# Altium footprint library JMPKG.PcbLib: 337 footprints (part 14 of 22)
Each footprint in its own frame and in the unit in brackets; x right, y up, seen from the top. Pads: shape width x height; smd on the part's side, far side on the other; paste and mask are expansions set on the pad; w line width, h text height; cw(c..) or ccw(c..) is an arc to the next point about the centre after c.
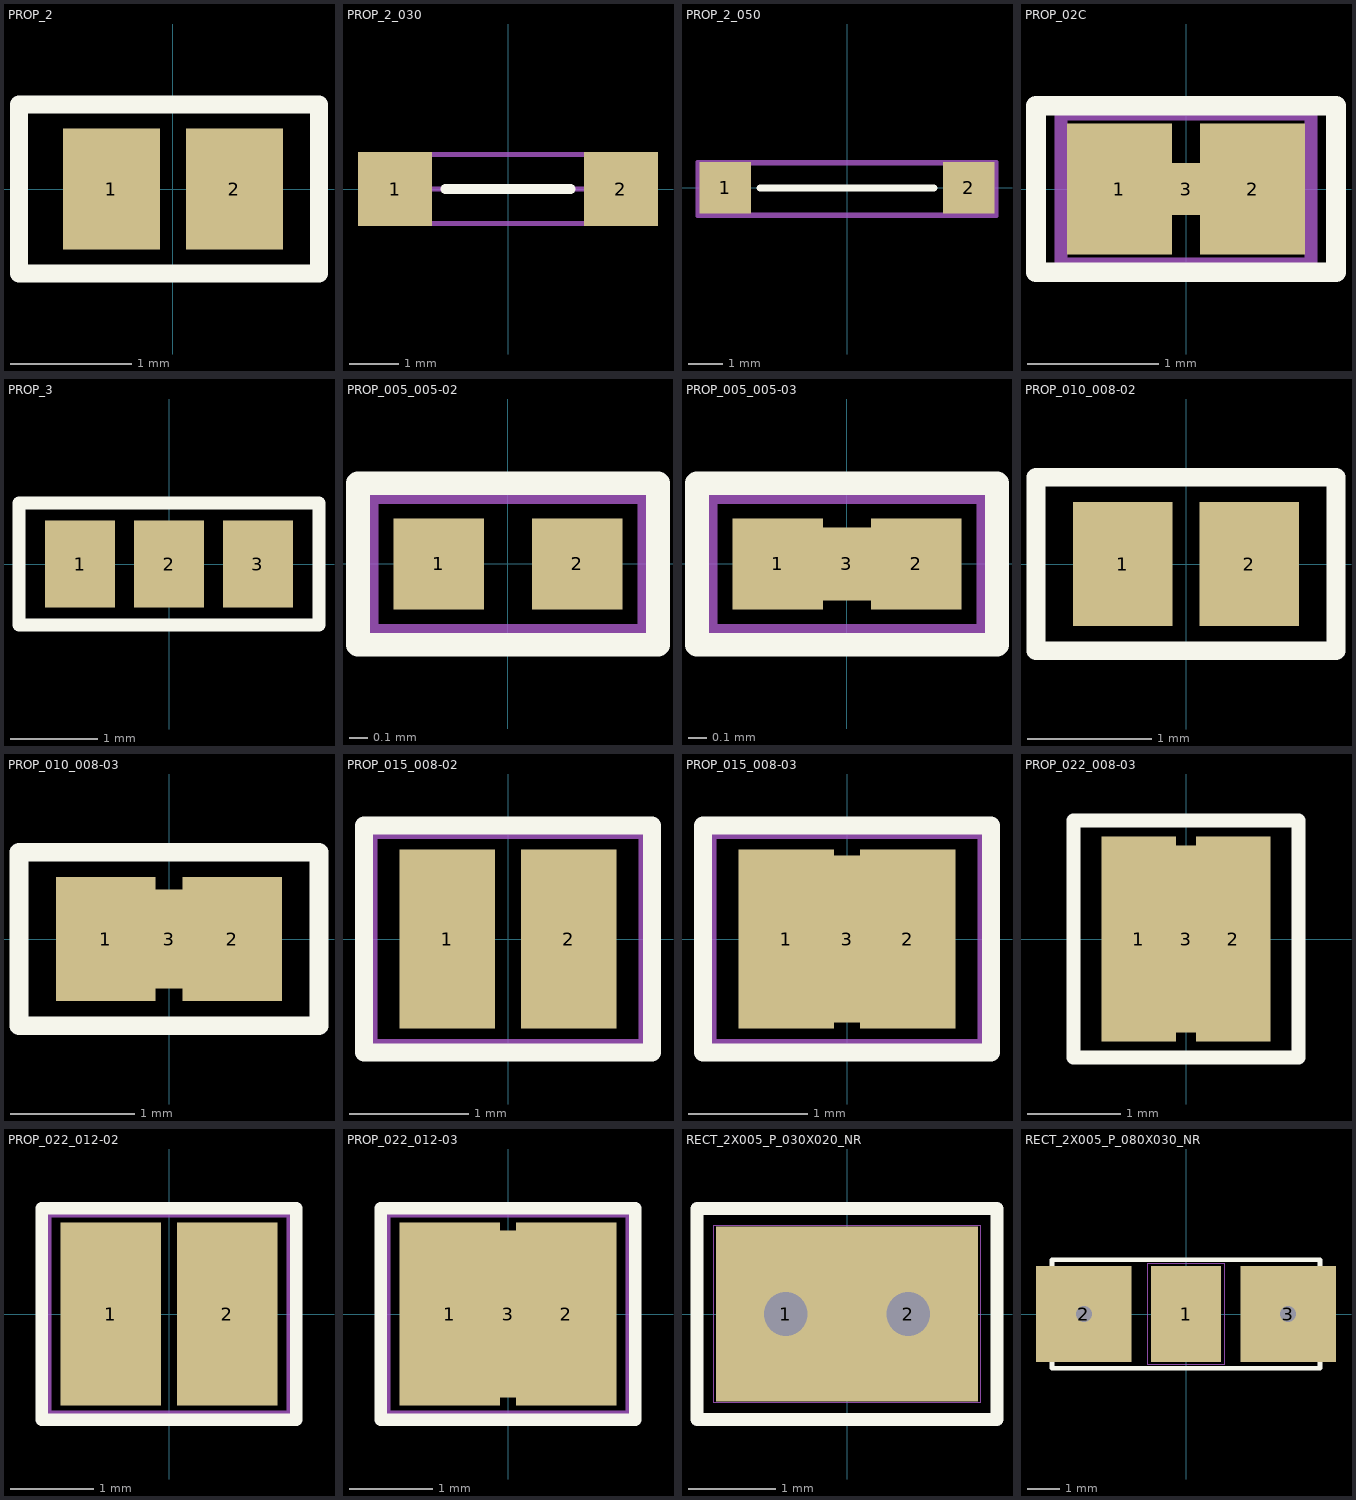
[diagram p13: the footprints below, top view; thin cyan lines are the x and y axes]

## PROP_2 [mm]
pads (2):
  rect 0.8x1 smd mask+0.05: 1(-0.508,0) 2(0.508,0)
Top Overlay:
  lines w0.15: -1.27,-0.699 1.206,-0.699 1.206,0.699 -1.27,0.699 -1.27,-0.699
Mechanical 15:
  lines w0.01: -1.206,-0.635 1.143,-0.635 1.143,0.635 -1.206,0.635 -1.206,-0.635
Multi-Layer:
  text "Value" at -0.943,-0.305 h0.6
  text "Value" at -0.938,-0.925 h0.6
Mechanical 20:
  lines w0.01: -1.27,-0.699 1.206,-0.699 1.206,0.699 -1.27,0.699 -1.27,-0.699

## PROP_2_030 [mm]
pads (2):
  rect 1.5x1.5 smd mask+0.1: 1(-2.286,0) 2(2.286,0)
Top Overlay:
  lines w0.2: -1.27,0 1.27,0
Mechanical 15:
  lines w0.1: -2.286,0 2.286,0
Multi-Layer:
  text "Value" at -1.235,-0.425 h0.75
Mechanical 20:
  lines w0.1: -2.984,-0.699 2.984,-0.699 2.984,0.699 -2.984,0.699 -2.984,-0.699

## PROP_2_050 [mm]
pads (2):
  rect 1.5x1.5 smd mask+0.1: 1(-3.556,0) 2(3.556,0)
Top Overlay:
  lines w0.2: -2.54,0 2.54,0
Mechanical 15:
  lines w0.1: -4.318,-0.762 4.318,-0.762 4.318,0.699 -4.318,0.699 -4.318,-0.762
Multi-Layer:
  text "Value" at -0.59,-0.696 h0.6
Mechanical 20:
  lines w0.1: -4.381,-0.826 4.381,-0.826 4.381,0.762 -4.381,0.762 -4.381,-0.826

## PROP_02C [mm]
pads (3):
  rect 0.8x1 smd mask+0.05: 1(-0.508,0) 2(0.508,0)
  rect 0.8x0.4 smd mask+0.05: 3(0,0)
Top Overlay:
  lines w0.15: -1.143,-0.635 1.143,-0.635 1.143,0.635 -1.143,0.635 -1.143,-0.635
Mechanical 15:
  lines w0.1: -0.953,-0.572 0.953,-0.572 0.953,0.572 -0.953,0.572 -0.953,-0.572
Multi-Layer:
  text "Value" at -0.988,-0.54 h0.6
Mechanical 20:
  lines w0.1: -1.143,-0.635 1.143,-0.635 1.143,0.635 -1.143,0.635 -1.143,-0.635

## PROP_3 [mm]
pads (3):
  rect 0.8x1 smd mask+0.05: 1(-1.016,0) 2(0,0) 3(1.016,0)
Top Overlay:
  lines w0.15: -1.714,-0.699 1.714,-0.699 1.714,0.699 -1.714,0.699 -1.714,-0.699
Mechanical 15:
  lines w0.01: -1.651,-0.635 1.651,-0.635 1.651,0.635 -1.651,0.635 -1.651,-0.635
Mechanical 20:
  lines w0.01: -1.714,-0.699 1.714,-0.699 1.714,0.699 -1.714,0.699 -1.714,-0.699

## PROP_005_005-02 [mm]
pads (2):
  rect 0.5x0.5 smd mask+0.05: 1(-0.381,0) 2(0.381,0)
Top Overlay:
  lines w0.13: -0.826,-0.445 0.826,-0.445 0.826,0.445 -0.826,0.445 -0.826,-0.445
Mechanical 15:
  lines w0.1: -0.762,-0.381 0.762,-0.381 0.762,0.381 -0.762,0.381 -0.762,-0.381
Multi-Layer:
  text "Value" at -0.659,-0.44 h0.4
  text "Value" at -0.75,-0.569 h0.5
Mechanical 20:
  lines w0.1: -0.826,-0.445 0.826,-0.445 0.826,0.445 -0.826,0.445 -0.826,-0.445

## PROP_005_005-03 [mm]
pads (3):
  rect 0.5x0.5 smd mask+0.05: 1(-0.381,0) 2(0.381,0)
  rect 0.4x0.4 smd mask-0.05: 3(0,0)
Top Overlay:
  lines w0.13: -0.826,-0.445 0.826,-0.445 0.826,0.445 -0.826,0.445 -0.826,-0.445
Mechanical 15:
  lines w0.1: -0.762,-0.381 0.762,-0.381 0.762,0.381 -0.762,0.381 -0.762,-0.381
Multi-Layer:
  text "Value" at -0.659,-0.44 h0.4
Mechanical 20:
  lines w0.1: -0.826,-0.445 0.826,-0.445 0.826,0.445 -0.826,0.445 -0.826,-0.445

## PROP_010_008-02 [mm]
pads (3):
  rect 0.8x1 smd mask+0.05: 1(-0.508,0) 2(0.508,0)
  round 0 all layers, no hole: 3(0,0)
Top Overlay:
  lines w0.15: -1.206,-0.699 1.206,-0.699 1.206,0.699 -1.206,0.699 -1.206,-0.699
Mechanical 15:
  lines w0.01: -1.143,-0.635 1.143,-0.635 1.143,0.635 -1.143,0.635 -1.143,-0.635
Mechanical 20:
  lines w0.01: -1.206,-0.699 1.206,-0.699 1.206,0.699 -1.206,0.699 -1.206,-0.699

## PROP_010_008-03 [mm]
pads (3):
  rect 0.8x1 smd mask+0.05: 1(-0.508,0) 2(0.508,0)
  rect 0.3x0.8 smd mask+0.05: 3(0,0)
Top Overlay:
  lines w0.15: -1.206,-0.699 -1.206,0.699 1.206,0.699 1.206,-0.699 -1.206,-0.699
Mechanical 15:
  lines w0.01: -1.143,-0.635 -1.143,0.635 1.143,0.635 1.143,-0.635 -1.143,-0.635
Mechanical 20:
  lines w0.01: -1.206,-0.699 -1.206,0.699 1.206,0.699 1.206,-0.699 -1.206,-0.699

## PROP_015_008-02 [mm]
pads (2):
  rect 0.8x1.5 smd mask+0.05: 1(-0.508,0) 2(0.508,0)
Top Overlay:
  lines w0.15: -1.206,-0.953 1.206,-0.953 1.206,0.953 -1.206,0.953 -1.206,-0.953
Mechanical 15:
  lines w0.1: -1.143,-0.889 1.143,-0.889 1.143,0.889 -1.143,0.889 -1.143,-0.889
Multi-Layer:
  text "Value" at -1.052,-0.413 h0.6
  text "Value" at -0.988,-0.629 h0.6
Mechanical 20:
  lines w0.1: -1.206,-0.953 1.206,-0.953 1.206,0.953 -1.206,0.953 -1.206,-0.953

## PROP_015_008-03 [mm]
pads (3):
  rect 0.8x1.5 smd mask+0.05: 1(-0.508,0) 2(0.508,0)
  rect 0.3x1.4 smd mask+0.05: 3(0,0)
Top Overlay:
  lines w0.15: -1.206,-0.953 1.206,-0.953 1.206,0.953 -1.206,0.953 -1.206,-0.953
Mechanical 15:
  lines w0.1: -1.143,-0.889 1.143,-0.889 1.143,0.889 -1.143,0.889 -1.143,-0.889
Multi-Layer:
  text "Value" at -1.052,-0.413 h0.6
  text "Value" at -0.988,-0.629 h0.6
Mechanical 20:
  lines w0.1: -1.206,-0.953 1.206,-0.953 1.206,0.953 -1.206,0.953 -1.206,-0.953

## PROP_022_008-03 [mm]
pads (3):
  rect 0.8x2.2 smd: 1(-0.508,0) 2(0.508,0)
  rect 0.3x2 smd: 3(0,0)
Top Overlay:
  lines w0.15: -1.206,-1.27 1.206,-1.27 1.206,1.27 -1.206,1.27 -1.206,-1.27
Mechanical 15:
  lines w0.01: -1.143,-1.206 1.143,-1.206 1.143,1.206 -1.143,1.206 -1.143,-1.206
Multi-Layer:
  text "Value" at -1.007,-0.368 h0.6
Mechanical 20:
  lines w0.01: -1.206,-1.27 1.206,-1.27 1.206,1.27 -1.206,1.27 -1.206,-1.27

## PROP_022_012-02 [mm]
pads (2):
  rect 1.2x2.2 smd mask+0.05: 1(-0.699,0) 2(0.699,0)
Top Overlay:
  lines w0.15: -1.524,-1.27 1.524,-1.27 1.524,1.27 -1.524,1.27 -1.524,-1.27
Mechanical 15:
  lines w0.1: -1.46,-1.206 1.46,-1.206 1.46,1.206 -1.46,1.206 -1.46,-1.206
Multi-Layer:
  text "Value" at -1.052,-0.413 h0.6
  text "Value" at -0.988,-0.629 h0.6
Mechanical 20:
  lines w0.1: -1.524,-1.27 1.524,-1.27 1.524,1.27 -1.524,1.27 -1.524,-1.27

## PROP_022_012-03 [mm]
pads (3):
  rect 1.2x2.2 smd mask+0.05: 1(-0.699,0) 2(0.699,0)
  rect 0.3x2 smd mask+0.05: 3(0,0)
Top Overlay:
  lines w0.15: -1.524,-1.27 1.524,-1.27 1.524,1.27 -1.524,1.27 -1.524,-1.27
Mechanical 15:
  lines w0.1: -1.46,-1.206 1.46,-1.206 1.46,1.206 -1.46,1.206 -1.46,-1.206
Multi-Layer:
  text "Value" at -1.052,-0.413 h0.6
Mechanical 20:
  lines w0.1: -1.524,-1.27 1.524,-1.27 1.524,1.27 -1.524,1.27 -1.524,-1.27

## RECT_2X005_P_030X020_NR [mm]
pads (2):
  rect 1.6x2 / inner round 1.1 / far side rect 1.6x2 hole 0.5 mask+0.05: 1(-0.7,0) 2(0.7,0)
Top Overlay:
  lines w0.15: -1.714,-1.206 1.714,-1.206 1.714,1.206 -1.714,1.206 -1.714,-1.206
Mechanical 15:
  lines w0.01: -1.524,-1.016 1.524,-1.016 1.524,1.016 -1.524,1.016 -1.524,-1.016
Multi-Layer:
  text "Value" at -0.816,-1.13 h0.6
Mechanical 20:
  lines w0.01: -1.714,-1.206 1.714,-1.206 1.714,1.206 -1.714,1.206 -1.714,-1.206

## RECT_2X005_P_080X030_NR [mm]
pads (3):
  rect 2.2x3 smd mask+0.05: 1(0,0)
  rrect0% 3x3 / inner round 1.1 / far side round 1.1 hole 0.5 mask-0.2: 2(-3.2,0) 3(3.2,0)
Top Overlay:
  lines w0.15: -4.2,-1.7 4.2,-1.7 4.2,1.7 -4.2,1.7 -4.2,-1.7
Mechanical 15:
  lines w0.01: -1.2,-1.587 1.2,-1.587 1.2,1.587 -1.2,1.587 -1.2,-1.587
Mechanical 20:
  lines w0.01: -4.2,-1.7 4.2,-1.7 4.2,1.7 -4.2,1.7 -4.2,-1.7